# EAGLE library part PIC18F8585 (library jason-test)
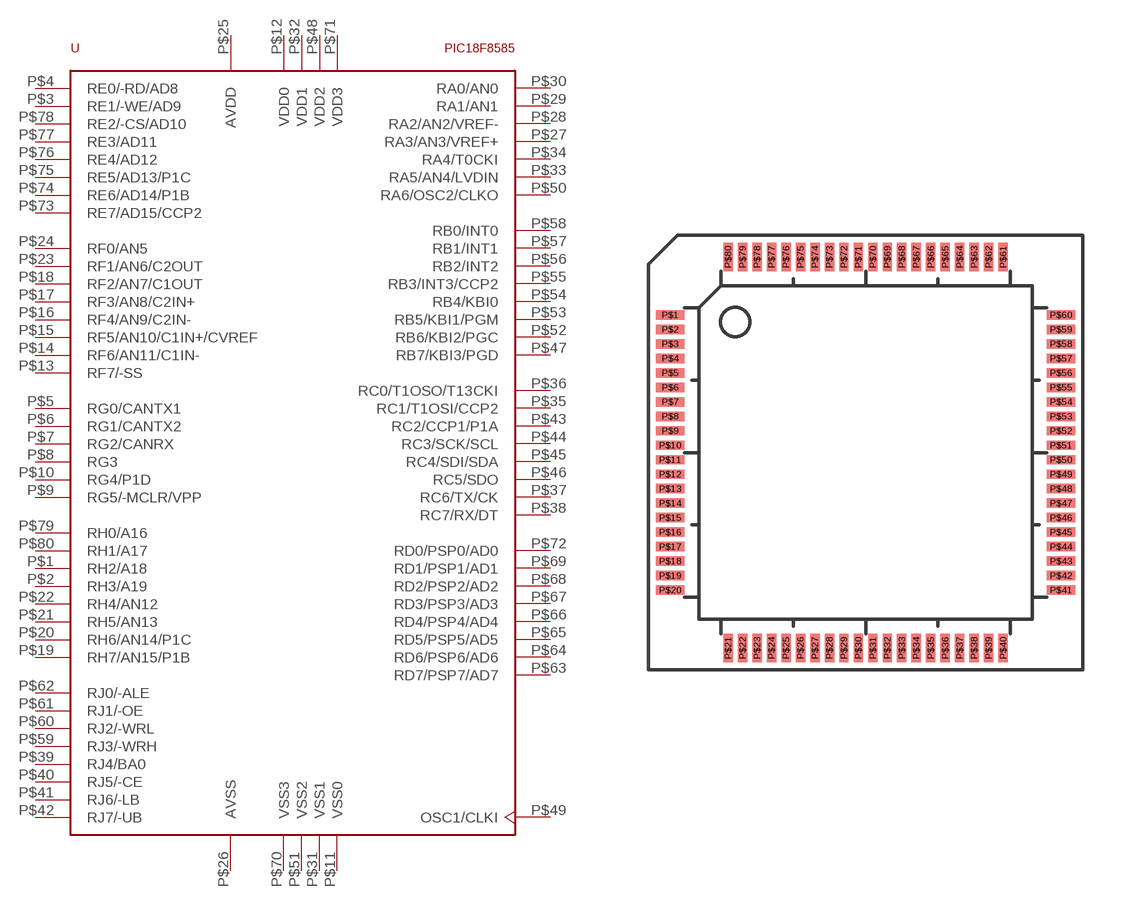
[diagram p14: symbol with the pads of TQFP-80; footprint TQFP-80]

Designator prefix -

## PIC18F8585  [TQFP-80]
P$1  RH2/A18
P$2  RH3/A19
P$3  RE1/-WE/AD9
P$4  RE0/-RD/AD8
P$5  RG0/CANTX1
P$6  RG1/CANTX2
P$7  RG2/CANRX
P$8  RG3
P$9  RG5/-MCLR/VPP
P$10  RG4/P1D
P$11  VSS0  pwr
P$12  VDD0  pwr
P$13  RF7/-SS
P$14  RF6/AN11/C1IN-
P$15  RF5/AN10/C1IN+/CVREF
P$16  RF4/AN9/C2IN-
P$17  RF3/AN8/C2IN+
P$18  RF2/AN7/C1OUT
P$19  RH7/AN15/P1B
P$20  RH6/AN14/P1C
P$21  RH5/AN13
P$22  RH4/AN12
P$23  RF1/AN6/C2OUT
P$24  RF0/AN5
P$25  AVDD  pwr
P$26  AVSS  pwr
P$27  RA3/AN3/VREF+
P$28  RA2/AN2/VREF-
P$29  RA1/AN1
P$30  RA0/AN0
P$31  VSS1  pwr
P$32  VDD1  pwr
P$33  RA5/AN4/LVDIN
P$34  RA4/T0CKI
P$35  RC1/T1OSI/CCP2
P$36  RC0/T1OSO/T13CKI
P$37  RC6/TX/CK
P$38  RC7/RX/DT
P$39  RJ4/BA0
P$40  RJ5/-CE
P$41  RJ6/-LB
P$42  RJ7/-UB
P$43  RC2/CCP1/P1A
P$44  RC3/SCK/SCL
P$45  RC4/SDI/SDA
P$46  RC5/SDO
P$47  RB7/KBI3/PGD
P$48  VDD2  pwr
P$49  OSC1/CLKI
P$50  RA6/OSC2/CLKO
P$51  VSS2  pwr
P$52  RB6/KBI2/PGC
P$53  RB5/KBI1/PGM
P$54  RB4/KBI0
P$55  RB3/INT3/CCP2
P$56  RB2/INT2
P$57  RB1/INT1
P$58  RB0/INT0
P$59  RJ3/-WRH
P$60  RJ2/-WRL
P$61  RJ1/-OE
P$62  RJ0/-ALE
P$63  RD7/PSP7/AD7
P$64  RD6/PSP6/AD6
P$65  RD5/PSP5/AD5
P$66  RD4/PSP4/AD4
P$67  RD3/PSP3/AD3
P$68  RD2/PSP2/AD2
P$69  RD1/PSP1/AD1
P$70  VSS3  pwr
P$71  VDD3  pwr
P$72  RD0/PSP0/AD0
P$73  RE7/AD15/CCP2
P$74  RE6/AD14/P1B
P$75  RE5/AD13/P1C
P$76  RE4/AD12
P$77  RE3/AD11
P$78  RE2/-CS/AD10
P$79  RH0/A16
P$80  RH1/A17

## Footprint TQFP-80 (pad centres in mm)
smd 1.016 x 0.33: P$1 -6.858,4.826; P$2 -6.858,4.318; P$3 -6.858,3.81; P$4 -6.858,3.302; P$5 -6.858,2.794; P$6 -6.858,2.286; P$7 -6.858,1.778; P$8 -6.858,1.27; P$9 -6.858,0.762; P$10 -6.858,0.254; P$11 -6.858,-0.254; P$12 -6.858,-0.762; P$13 -6.858,-1.27; P$14 -6.858,-1.778; P$15 -6.858,-2.286; P$16 -6.858,-2.794; P$17 -6.858,-3.302; P$18 -6.858,-3.81; P$19 -6.858,-4.318; P$20 -6.858,-4.826; P$41 6.858,-4.826; P$42 6.858,-4.318; P$43 6.858,-3.81; P$44 6.858,-3.302; P$45 6.858,-2.794; P$46 6.858,-2.286; P$47 6.858,-1.778; P$48 6.858,-1.27; P$49 6.858,-0.762; P$50 6.858,-0.254; P$51 6.858,0.254; P$52 6.858,0.762; P$53 6.858,1.27; P$54 6.858,1.778; P$55 6.858,2.286; P$56 6.858,2.794; P$57 6.858,3.302; P$58 6.858,3.81; P$59 6.858,4.318; P$60 6.858,4.826
smd 0.33 x 1.016: P$21 -4.826,-6.858; P$22 -4.318,-6.858; P$23 -3.81,-6.858; P$24 -3.302,-6.858; P$25 -2.794,-6.858; P$26 -2.286,-6.858; P$27 -1.778,-6.858; P$28 -1.27,-6.858; P$29 -0.762,-6.858; P$30 -0.254,-6.858; P$31 0.254,-6.858; P$32 0.762,-6.858; P$33 1.27,-6.858; P$34 1.778,-6.858; P$35 2.286,-6.858; P$36 2.794,-6.858; P$37 3.302,-6.858; P$38 3.81,-6.858; P$39 4.318,-6.858; P$40 4.826,-6.858; P$61 4.826,6.858; P$62 4.318,6.858; P$63 3.81,6.858; P$64 3.302,6.858; P$65 2.794,6.858; P$66 2.286,6.858; P$67 1.778,6.858; P$68 1.27,6.858; P$69 0.762,6.858; P$70 0.254,6.858; P$71 -0.254,6.858; P$72 -0.762,6.858; P$73 -1.27,6.858; P$74 -1.778,6.858; P$75 -2.286,6.858; P$76 -2.794,6.858; P$77 -3.302,6.858; P$78 -3.81,6.858; P$79 -4.318,6.858; P$80 -4.826,6.858